# Altium footprint library Wuhu_V1.PcbLib: 8 footprints
Each footprint in its own frame and in the unit in brackets; x right, y up, seen from the top. Pads: shape width x height; smd on the part's side, far side on the other; paste and mask are expansions set on the pad; w line width, h text height; cw(c..) or ccw(c..) is an arc to the next point about the centre after c.
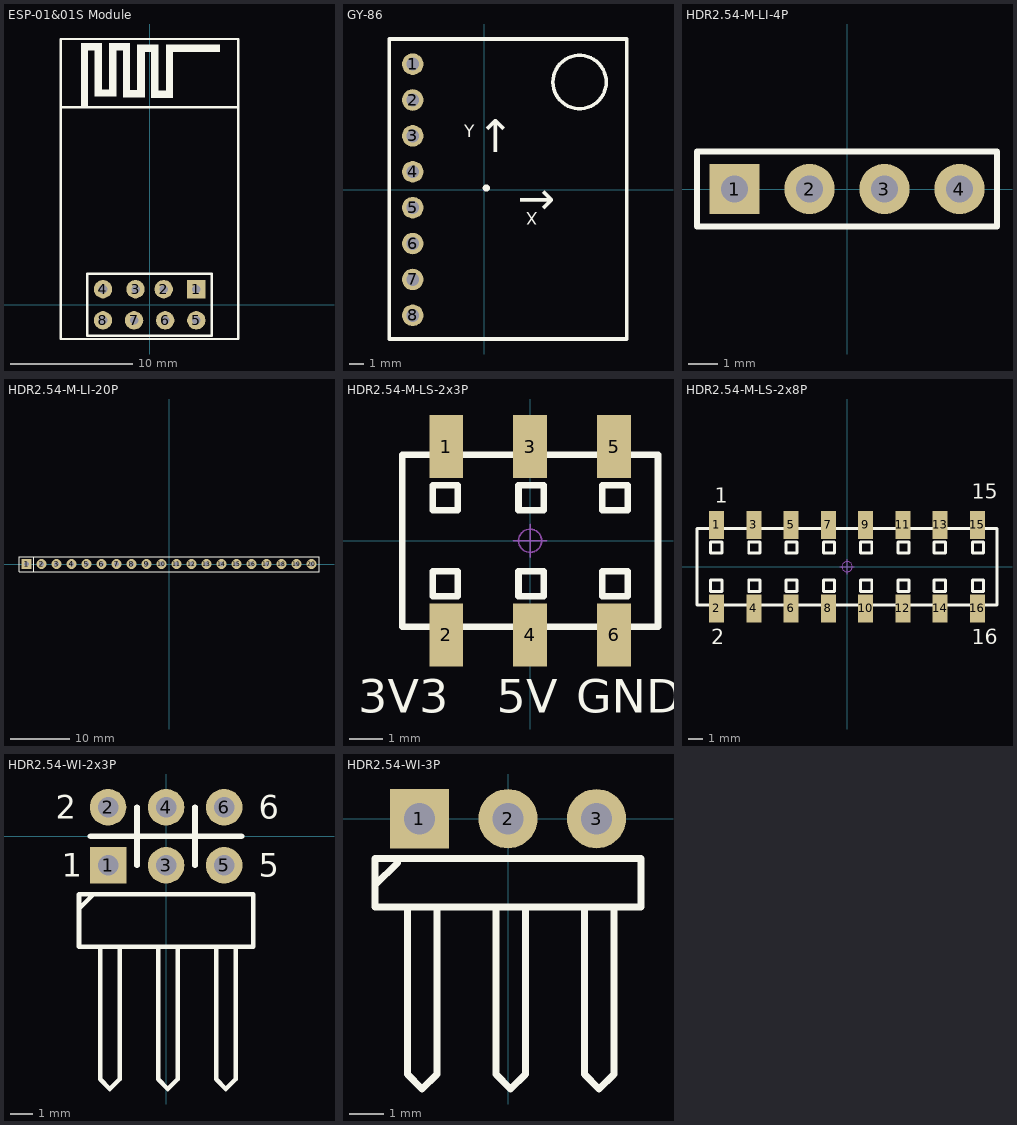
[diagram p0: the footprints below, top view; thin cyan lines are the x and y axes]

## ESP-01&01S Module [mm]
pads (8):
  rect 1.5x1.5 hole 0.7: 1(3.81,1.27)
  round 1.5 hole 0.7: 2(1.15,1.27) 3(-1.15,1.27) 4(-3.81,1.27) 5(3.81,-1.27) 6(1.27,-1.27) 7(-1.27,-1.27) 8(-3.81,-1.27)
Top Overlay:
  rectangle: -5.599,16.129 -5.015,21.361
  rectangle: -5.015,20.777 -3.897,21.361
  rectangle: -4.507,17.018 -3.897,20.777
  rectangle: -3.897,17.018 -2.703,17.602
  rectangle: -3.313,17.602 -2.703,21.361
  rectangle: -2.703,20.777 -1.586,21.361
  rectangle: -2.17,16.942 -1.586,20.777
  rectangle: -1.586,16.942 -0.392,17.526
  rectangle: -1.027,17.526 -0.392,21.26
  rectangle: -0.392,20.65 0.726,21.26
  rectangle: 0.116,16.891 0.726,20.65
  rectangle: 0.726,16.891 1.919,17.5
  rectangle: 1.335,17.5 1.919,21.26
  rectangle: 1.919,20.65 5.755,21.26
  lines w0.2: -7.25,16.129 7.25,16.129 ; -7.25,-2.794 7.25,-2.794 7.25,21.706 -7.25,21.706 -7.25,-2.794 ; -5.08,-2.54 -5.08,2.54 5.08,2.54 5.08,-2.54 -5.08,-2.54

## GY-86 [mil]
pads (8):
  round 60 hole 36: 1(-200,350) 2(-200,250) 3(-200,150) 4(-200,50) 5(-200,-50) 6(-200,-150) 7(-200,-250) 8(-200,-350)
Top Overlay:
  circle w10: c265,300 r74.33
  circle w10: c5,5 r5
  lines w10: -265,-415.98 395.98,-415.98 395.98,420 -265,420 -265,-415.98
  text "↑" at 69.05,23.78 h157.48
  text "↑" at -20.95,73.78 h157.48
  text "Y" at -55.95,133.78 h59.05
  text "X" at 149.05,-50 h59.05

## HDR2.54-M-LI-4P [mm] "排母，4脚"
pads (4):
  rect 1.7x1.7 hole 0.9: 1(-3.81,0)
  round 1.7 hole 0.9: 2(-1.27,0) 3(1.27,0) 4(3.81,0)
Top Overlay:
  lines w0.2: -5.08,-1.27 5.08,-1.27 5.08,1.27 -5.08,1.27 -5.08,-1.27
3D body "HDR2.54-1P_M.STEP": height 8.5, standoff -3, extent 0,-1.27 2.54,1.27
3D body "HDR2.54-1P_M.STEP": height 8.5, standoff -3, extent 2.54,-1.27 5.08,1.27
3D body "HDR2.54-1P_M.STEP": height 8.5, standoff -3, extent -5.08,-1.27 -2.54,1.27
3D body "HDR2.54-1P_M.STEP": height 8.5, standoff -3, extent -2.54,-1.27 0,1.27

## HDR2.54-M-LI-20P [mm] "排母，20脚"
pads (20):
  rect 1.7x1.7 hole 0.9: 1(-24.13,0)
  round 1.7 hole 0.9: 2(-21.59,0) 3(-19.05,0) 4(-16.51,0) 5(-13.97,0) 6(-11.43,0) 7(-8.89,0) 8(-6.35,0) 9(-3.81,0) 10(-1.27,0) 11(1.27,0) 12(3.81,0) 13(6.35,0) 14(8.89,0) 15(11.43,0) 16(13.97,0)
  round 1.7 hole 0.762: 17(16.51,0) 18(19.05,0) 19(21.59,0) 20(24.13,0)
Top Overlay:
  lines w0.2: -22.88,-1.25 -22.88,1.25 ; -25.4,-1.27 25.4,-1.27 25.4,1.27 -23.495,1.27 -25.4,1.27 -25.4,-1.27
3D body "HDR2.54-1P_M.STEP": height 8.5, standoff -3, extent -15.24,-1.27 -12.7,1.27
3D body "HDR2.54-1P_M.STEP": height 8.5, standoff -3, extent -17.78,-1.27 -15.24,1.27
3D body "HDR2.54-1P_M.STEP": height 8.5, standoff -3, extent -20.32,-1.27 -17.78,1.27
3D body "HDR2.54-1P_M.STEP": height 8.5, standoff -3, extent -22.86,-1.27 -20.32,1.27
3D body "HDR2.54-1P_M.STEP": height 8.5, standoff -3, extent -25.4,-1.27 -22.86,1.27
3D body "HDR2.54-1P_M.STEP": height 8.5, standoff -3, extent -2.54,-1.27 0,1.27
3D body "HDR2.54-1P_M.STEP": height 8.5, standoff -3, extent -5.08,-1.27 -2.54,1.27
3D body "HDR2.54-1P_M.STEP": height 8.5, standoff -3, extent -7.62,-1.27 -5.08,1.27
3D body "HDR2.54-1P_M.STEP": height 8.5, standoff -3, extent -10.16,-1.27 -7.62,1.27
3D body "HDR2.54-1P_M.STEP": height 8.5, standoff -3, extent -12.7,-1.27 -10.16,1.27
3D body "HDR2.54-1P_M.STEP": height 8.5, standoff -3, extent 10.16,-1.27 12.7,1.27
3D body "HDR2.54-1P_M.STEP": height 8.5, standoff -3, extent 7.62,-1.27 10.16,1.27
3D body "HDR2.54-1P_M.STEP": height 8.5, standoff -3, extent 5.08,-1.27 7.62,1.27
3D body "HDR2.54-1P_M.STEP": height 8.5, standoff -3, extent 2.54,-1.27 5.08,1.27
3D body "HDR2.54-1P_M.STEP": height 8.5, standoff -3, extent 0,-1.27 2.54,1.27
3D body "HDR2.54-1P_M.STEP": height 8.5, standoff -3, extent 22.86,-1.27 25.4,1.27
3D body "HDR2.54-1P_M.STEP": height 8.5, standoff -3, extent 20.32,-1.27 22.86,1.27
3D body "HDR2.54-1P_M.STEP": height 8.5, standoff -3, extent 17.78,-1.27 20.32,1.27
3D body "HDR2.54-1P_M.STEP": height 8.5, standoff -3, extent 15.24,-1.27 17.78,1.27
3D body "HDR2.54-1P_M.STEP": height 8.5, standoff -3, extent 12.7,-1.27 15.24,1.27

## HDR2.54-M-LS-2x3P [mm] "脚距：2.54mm，贴片双排母"
pads (6):
  rect 1.02x1.9 smd: 1(-2.54,2.85) 2(-2.54,-2.85) 3(0,2.85) 4(0,-2.85) 5(2.54,2.85) 6(2.54,-2.85)
Top Overlay:
  lines w0.2: -3.87,-2.6 -3.87,2.6 3.87,2.6 3.87,-2.6 -3.87,-2.6 ; -2.951,-1.681 -2.951,-0.919 -2.189,-0.919 -2.189,-1.681 -2.951,-1.681 ; -2.951,0.919 -2.951,1.681 -2.189,1.681 -2.189,0.919 -2.951,0.919 ; -0.351,-1.681 -0.351,-0.919 0.411,-0.919 0.411,-1.681 -0.351,-1.681 ; -0.351,0.919 -0.351,1.681 0.411,1.681 0.411,0.919 -0.351,0.919 ; 2.189,-1.681 2.951,-1.681 2.951,-0.919 2.189,-0.919 2.189,-1.681 ; 2.189,0.919 2.951,0.919 2.951,1.681 2.189,1.681 2.189,0.919
  text "GND" at 1.397,-5.207 h1.02
  text "3V3" at -5.207,-5.207 h1.02
  text "5V" at -1.016,-5.207 h1.02
Mechanical 15:
  circle w0.05: c0,0 r0.35
  lines w0.05: -0.5,0 0.5,0 ; 0,-0.5 0,0.5
3D body "HDR2.54 2x1P_M.STEP": height 5.15, standoff 0, extent 1.24,-3.2 3.84,3.2
3D body "HDR2.54 2x1P_M.STEP": height 5.15, standoff 0, extent -1.3,-3.2 1.3,3.2
3D body "HDR2.54 2x1P_M.STEP": height 5.15, standoff 0, extent -3.84,-3.2 -1.24,3.2

## HDR2.54-M-LS-2x8P [mm] "脚距：2.54mm，贴片双排母"
pads (16):
  rect 1.02x1.9 smd: 1(-8.89,2.85) 2(-8.89,-2.85) 3(-6.35,2.85) 4(-6.35,-2.85) 5(-3.81,2.85) 6(-3.81,-2.85) 7(-1.27,2.85) 8(-1.27,-2.85) 9(1.27,2.85) 10(1.27,-2.85) 11(3.81,2.85) 12(3.81,-2.85) 13(6.35,2.85) 14(6.35,-2.85) 15(8.89,2.85) 16(8.89,-2.85)
Top Overlay:
  lines w0.2: -10.23,-2.6 -10.23,2.6 10.22,2.6 10.22,-2.6 -10.23,-2.6 ; -9.301,-1.681 -9.301,-0.919 -8.539,-0.919 -8.539,-1.681 -9.301,-1.681 ; -9.301,0.919 -9.301,1.681 -8.539,1.681 -8.539,0.919 -9.301,0.919 ; -6.701,-1.681 -6.701,-0.919 -5.939,-0.919 -5.939,-1.681 -6.701,-1.681 ; -6.701,0.919 -6.701,1.681 -5.939,1.681 -5.939,0.919 -6.701,0.919 ; -4.161,-1.681 -3.399,-1.681 -3.399,-0.919 -4.161,-0.919 -4.161,-1.681 ; -4.161,0.919 -3.399,0.919 -3.399,1.681 -4.161,1.681 -4.161,0.919 ; -1.621,-1.681 -1.621,-0.919 -0.859,-0.919 -0.859,-1.681 -1.621,-1.681 ; -1.621,0.919 -1.621,1.681 -0.859,1.681 -0.859,0.919 -1.621,0.919 ; 0.919,-1.681 0.919,-0.919 1.681,-0.919 1.681,-1.681 0.919,-1.681 ; 0.919,0.919 0.919,1.681 1.681,1.681 1.681,0.919 0.919,0.919 ; 3.459,-1.681 3.459,-0.919 4.221,-0.919 4.221,-1.681 3.459,-1.681 ; 3.459,0.919 3.459,1.681 4.221,1.681 4.221,0.919 3.459,0.919 ; 5.939,-1.681 6.701,-1.681 6.701,-0.919 5.939,-0.919 5.939,-1.681 ; 5.939,0.919 6.701,0.919 6.701,1.681 5.939,1.681 5.939,0.919 ; 8.539,-1.681 9.301,-1.681 9.301,-0.919 8.539,-0.919 8.539,-1.681 ; 8.539,0.919 9.301,0.919 9.301,1.681 8.539,1.681 8.539,0.919
  text "16" at 8.509,-5.278 h1.02
  text "15" at 8.509,4.628 h1.02
  text "1" at -9.017,4.374 h1.02
  text "2" at -9.271,-5.278 h1.02
Mechanical 15:
  circle w0.05: c0,0 r0.35
  lines w0.05: -0.5,0 0.5,0 ; 0,-0.5 0,0.5
3D body "HDR2.54 2x1P_M.STEP": height 5.15, standoff 0, extent -5.11,-3.2 -2.51,3.2
3D body "HDR2.54 2x1P_M.STEP": height 5.15, standoff 0, extent -7.65,-3.2 -5.05,3.2
3D body "HDR2.54 2x1P_M.STEP": height 5.15, standoff 0, extent -10.19,-3.2 -7.59,3.2
3D body "HDR2.54 2x1P_M.STEP": height 5.15, standoff 0, extent -2.57,-3.2 0.03,3.2
3D body "HDR2.54 2x1P_M.STEP": height 5.15, standoff 0, extent -0.03,-3.2 2.57,3.2
3D body "HDR2.54 2x1P_M.STEP": height 5.15, standoff 0, extent 2.51,-3.2 5.11,3.2
3D body "HDR2.54 2x1P_M.STEP": height 5.15, standoff 0, extent 5.05,-3.2 7.65,3.2
3D body "HDR2.54 2x1P_M.STEP": height 5.15, standoff 0, extent 7.59,-3.2 10.19,3.2

## HDR2.54-WI-2x3P [mm] "双排弯脚排针，3x2脚"
pads (6):
  rect 1.6x1.6 hole 0.9: 1(-2.54,-1.27)
  round 1.6 hole 0.9: 2(-2.54,1.27) 3(0,-1.27) 4(0,1.27) 5(2.54,-1.27) 6(2.54,1.27)
Top Overlay:
  lines w0.2: -3.81,-3.175 -3.175,-2.54 ; -2.888,-10.634 -2.465,-11.057 -2.041,-10.634 -2.032,-10.625 -2.032,-4.826 ; -2.879,-10.634 -2.879,-4.826 ; -0.348,-10.634 0.075,-11.057 0.499,-10.634 ; -0.339,-10.634 -0.339,-4.826 ; 0.508,-10.634 0.508,-4.826 ; 2.192,-10.634 2.615,-11.057 3.039,-10.634 ; 2.201,-10.634 2.201,-4.826 ; 3.048,-10.634 3.048,-4.826 ; -3.81,-4.826 -3.81,-2.54 3.81,-2.54 3.81,-4.826 -3.81,-4.826
  lines w0.254: -3.302,0 3.302,0 ; -1.27,-1.27 -1.27,1.27 ; 1.27,-1.27 1.27,1.27
  text "1" at -4.572,-1.778 h1.02
  text "2" at -4.826,0.762 h1.02
  text "5" at 4.064,-1.778 h1.02
  text "6" at 4.064,0.762 h1.02
Bottom Overlay:
  lines w0.254: -3.302,0 3.302,0 ; -1.27,-1.27 -1.27,1.27 ; 1.27,-1.27 1.27,1.27
3D body "HDR-1x2_H.STEP": height 5.1, standoff -3, extent 1.27,-11.23 3.81,1.62
3D body "HDR-1x2_H.STEP": height 5.1, standoff -3, extent -3.81,-11.23 -1.27,1.62
3D body "HDR-1x2_H.STEP": height 5.1, standoff -3, extent -1.27,-11.23 1.27,1.62

## HDR2.54-WI-3P [mm] "弯脚排针，3脚"
pads (3):
  rect 1.7x1.7 hole 0.9: 1(-2.54,0)
  round 1.7 hole 0.9: 2(0,0) 3(2.54,0)
Top Overlay:
  lines w0.2: -3.81,-1.905 -3.175,-1.27 ; -2.888,-2.54 -2.888,-7.332 -2.465,-7.755 -2.041,-7.332 -2.032,-7.323 ; -2.041,-7.323 -2.041,-2.54 ; -0.348,-2.54 -0.348,-7.332 0.075,-7.755 0.499,-7.332 ; 0.499,-7.323 0.499,-2.54 ; 2.192,-2.54 2.192,-7.332 2.615,-7.755 3.039,-7.332 ; 3.039,-7.323 3.039,-2.54 ; -3.81,-2.54 3.81,-2.54 3.81,-1.143 -2.032,-1.143 -3.81,-1.143 -3.81,-2.54
3D body "HDR2.54-1P_H.STEP": height 4.85, standoff -3, extent -3.81,-7.77 -1.27,1.27
3D body "HDR2.54-1P_H.STEP": height 4.85, standoff -3, extent -1.27,-7.77 1.27,1.27
3D body "HDR2.54-1P_H.STEP": height 4.85, standoff -3, extent 1.27,-7.77 3.81,1.27